# Altium schematic symbol library WS2812B.SchLib: 1 symbol
Pins are listed as number, name and electrical type; pins without a type are passive.

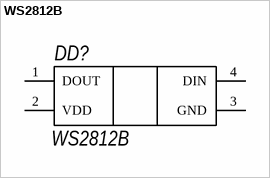
[diagram p0: symbol WS2812B]

## WS2812B
designator DD?
pins: 1 DOUT, 2 VDD, 3 GND, 4 DIN